# EAGLE library part 74HC4051 (library LibTsu)
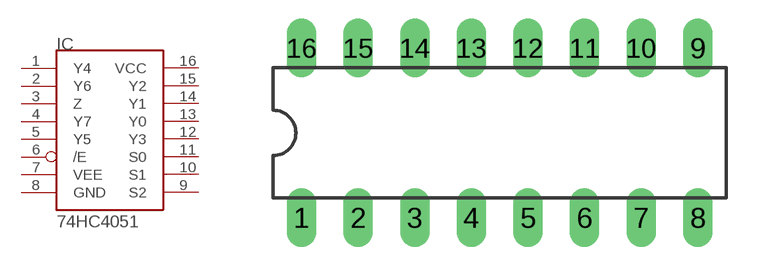
[diagram p0: symbol with the pads of DIL16; footprint DIL16]

Designator prefix IC

## 74HC4051DIL16  [DIL16]
1  Y4
2  Y6
3  Z
4  Y7
5  Y5
6  /E
7  VEE
8  GND
9  S2
10  S1
11  S0
12  Y3
13  Y0
14  Y1
15  Y2
16  VCC

## Footprint DIL16 (pad centres in mm)
Dual In Line Package
drill 0.813 long: 1 -8.89,-3.81; 2 -6.35,-3.81; 3 -3.81,-3.81; 4 -1.27,-3.81; 5 1.27,-3.81; 6 3.81,-3.81; 7 6.35,-3.81; 8 8.89,-3.81; 9 8.89,3.81; 10 6.35,3.81; 11 3.81,3.81; 12 1.27,3.81; 13 -1.27,3.81; 14 -3.81,3.81; 15 -6.35,3.81; 16 -8.89,3.81